# Altium schematic symbol library TXS0108EPWR.SchLib: 1 symbol
Pins are listed as number, name and electrical type; pins without a type are passive.

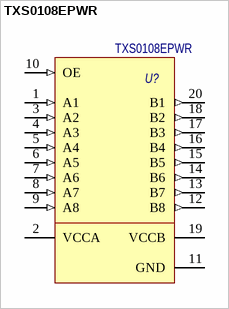
[diagram p0: symbol TXS0108EPWR]

## TXS0108EPWR
designator U?
8-Bit Bi-directional, Level-Shifting, Voltage Translator / for Open-Drain and Push-Pull Applications; Потребление, Вт: 0.001; Назначение: 8-Bit Bi-directional, Level-Shifting, Voltage Translator; ComponentLink1Description: DataSheet; ComponentLink1URL: https://www.ti.com/lit/ds/symlink/txs0108e.pdf?ts=1638170700951&ref_url=https%253A%252F%252Fwww.google.ru%252F; Наименование: TXS0108EPWR
footprint TSSOP-20 (TSOP, 20-Leads, Body 6,50x4,40mm, Pitch 0,65mm, IPC Medium Density)
pins: 1 A1 (in), 2 VCCA (power), 3 A2 (in), 4 A3 (in), 5 A4 (in), 6 A5 (in), 7 A6 (in), 8 A7 (in), 9 A8 (in), 10 OE (in), 11 GND (power), 12 B8 (out), 13 B7 (out), 14 B6 (out), 15 B5 (out), 16 B4 (out), 17 B3 (out), 18 B2 (out), 19 VCCB (power), 20 B1 (out)